# Altium schematic symbol library HK_SCHLIB.SchLib: 347 symbols (part 7 of 8)
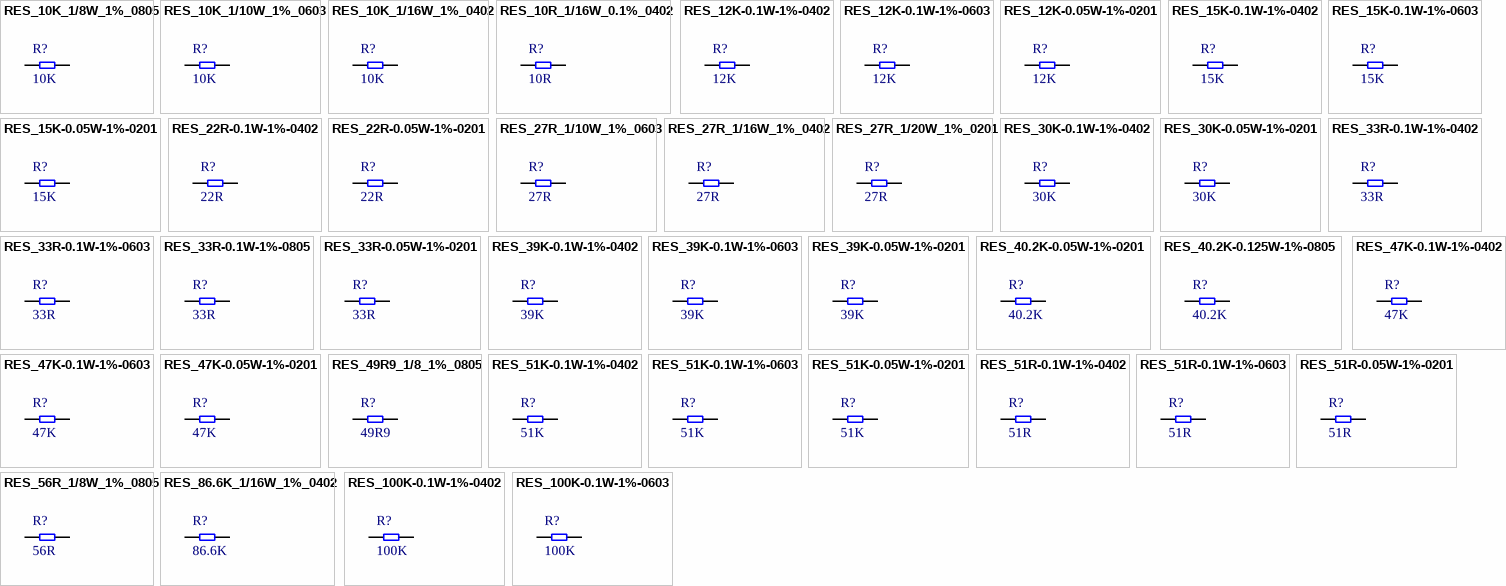
[diagram p21: symbols RES_10K_1/8W_1%_0805 to RES_100K-0.1W-1%-0603]

## RES_15K-0.1W-1%-0603
designator R?, comment 15K
15 kOhms ±1% 0.1W, 1/10W Chip Resistor 0603 (1608 Metric) Thick Film /; Manufacturer: Yageo; Manufacturer Part Number: RC0603FR-0715KL; Suplier-1: Digikey; Case/Package: 0603
footprint RES_0603 (CASE: 0603)
pins: 1, 2

## RES_15K-0.05W-1%-0201
designator R?, comment 15K
15 kOhms ±1% 0.05W, 1/20W Chip Resistor 0201 (0603 Metric) Thick Film /; Manufacturer: Stackpole Electronics Inc; Manufacturer Part Number: RMCF0201FT15K0; Suplier-1: Digikey; Case/Package: 0201
footprint RES_0201
pins: 1, 2

## RES_22R-0.1W-1%-0402
designator R?, comment 22R
Res Thick Film 0402 22 Ohm 1% 0.063W(1/16W) ±100ppm/C Pad SMD T/R
footprint RES_0402
pins: 1, 2

## RES_22R-0.05W-1%-0201
designator R?, comment 22R
22 Ohms ±1% 0.05W, 1/20W Chip Resistor 0201 (0603 Metric) Moisture Resistant Thick Film /; Manufacturer: Yageo; Manufacturer Part Number: RC0201FR-0722RL; Case/Package: 0201; Supplier-1: Digikey
footprint RES_0201
pins: 1, 2

## RES_27R_1/10W_1%_0603
designator R?, comment 27R
SMD Chip Resistor, 27 Ohm, ± 1%, 100 mW, 0603 [1608 Metric], Thick Film, General Purpose; Manufacturer: Yageo; Manufacturer Part Number: RC0603FR-0727RL; Supplier 1: Future Electronics; RoHS: Yes; Category: Chip SMD Resistors; Stock 1: 900000; Pricing 1: 5000=0.0014, 50000=0.0013, 200000=0.0013, 625000=0.0012, 2000000=0.0011 (USD); ComponentLink1URL: https://datasheet.ciiva.com/2454/pyu-r-int-thick-7-2454030.pdf?src-supplier=Digi-Key; ComponentLink1Description: https://datasheet.ciiva.com/2454/pyu-r-int-thick-7-2454030.pdf?src-supplier=Digi-Key; ComponentLink2URL: https://datasheet.ciiva.com/2454/pyu-r-int-thick-7-2454031.pdf?src-supplier=Digi-Key; ComponentLink2Description: https://datasheet.ciiva.com/2454/pyu-r-int-thick-7-2454031.pdf?src-supplier=Digi-Key; ComponentLink3URL: https://datasheet.ciiva.com/2454/pyu-r-int-thick-7-2454032.pdf?src-supplier=Digi-Key; ComponentLink3Description: https://datasheet.ciiva.com/2454/pyu-r-int-thick-7-2454032.pdf?src-supplier=Digi-Key; ComponentLink4URL: https://datasheet.ciiva.com/7746/443971-7746313.pdf?src-supplier=Element14; ComponentLink4Description: https://datasheet.ciiva.com/7746/443971-7746313.pdf?src-supplier=Element14; ComponentLink5URL: https://datasheet.ciiva.com/7746/443971-7746314.pdf?src-supplier=Element14; ComponentLink5Description: https://datasheet.ciiva.com/7746/443971-7746314.pdf?src-supplier=Element14
footprint RES_0603
pins: 1, 2

## RES_27R_1/16W_1%_0402
designator R?, comment 27R
Res Thick Film 0402 27 Ohm 1% 0.063W(1/16W) ±100ppm/°C Pad SMD T/R; Manufacturer 1: Yageo; Manufacturer Part Number 1: RC0402FR-0727RL; Power Rating: 62.5mW; Voltage Rating: 50V; Max Power Dissipation: 63mW; ComponentLink1URL: https://datasheet.ciiva.com/11808/0900766b80c66297-11808450.pdf?src-supplier=Rs; ComponentLink1Description: https://datasheet.ciiva.com/11808/0900766b80c66297-11808450.pdf?src-supplier=Rs; ComponentLink2URL: https://datasheet.ciiva.com/7849/1018594-7849927.pdf?src-supplier=Element14; ComponentLink2Description: https://datasheet.ciiva.com/7849/1018594-7849927.pdf?src-supplier=Element14; ComponentLink3URL: https://datasheet.ciiva.com/7849/1018594-7849926.pdf?src-supplier=Element14; ComponentLink3Description: https://datasheet.ciiva.com/7849/1018594-7849926.pdf?src-supplier=Element14; ComponentLink4URL: https://datasheet.ciiva.com/17044/pyu-rc0402-51-rohs-l-6-17044345.pdf?src-supplier=Future+Electronics; ComponentLink4Description: https://datasheet.ciiva.com/17044/pyu-rc0402-51-rohs-l-6-17044345.pdf?src-supplier=Future+Electronics; ComponentLink5URL: https://datasheet.ciiva.com/15189/getdatasheetpartid-327852-15189402.pdf?src-supplier=Verical; ComponentLink5Description: https://datasheet.ciiva.com/15189/getdatasheetpartid-327852-15189402.pdf?src-supplier=Verical; Supplier 1: Digi-Key; RoHS: Yes; Category: Chip SMD Resistors; Stock 1: 676654; Pricing 1: 1=0.1, 10=0.014, 50=0.0084, 100=0.007, 500=0.00464, 1000=0.00396, 5000=0.00282 (USD); Case/Package: 0402; Case Code (Imperial): 0402; Case Code (Metric): 1005; Weight: 2.3E-05oz; Size Code: 0402; Min Operating Temperature: -55°C; Max Operating Temperature: 155°C; Resistance: 27R; Tolerance: 1%; Packaging: Tape and Reel; Resistor Type: Thick Film; Termination: SMD/SMT; Number of Terminations: 2; Temperature Coefficient: 100ppm/°C; Features: Moisture Resistant; Series: RC; Construction: Rectangular; Technology: THICK FILM; Resistance Tolerance: 1%; Length: 1mm; Width: 0.5mm; Height: 0.016inch; Depth: 0.5mm; Military Standard: Not; Lead Free: Lead Free; RoHS Compliant: Yes; Reach SVHC Compliant: Unknown; Supplier Part Number 1: YAG3086CT-ND
footprint RES_0402
pins: 1, 2

## RES_27R_1/20W_1%_0201
designator R?, comment 27R
Res Thick Film 0201 27 Ohm 1% 1/20W ±200ppm/°C Molded SMD Paper T/R; Manufacturer: Yageo; Manufacturer Part Number: RC0201FR-0727RL; Supplier 1: Avnet; RoHS: Yes; Category: Chip SMD Resistors; Stock 1: 10000; Pricing 1: 1=0.102, 25=0.016, 100=0.008, 250=0.007, 500=0.006 (USD); ComponentLink1URL: http://www.mouser.com/ds/2/447/RC0201-559633.pdf?src-supplier=Mouser; ComponentLink1Description: http://www.mouser.com/ds/2/447/RC0201-559633.pdf?src-supplier=Mouser; ComponentLink2URL: https://www.yageo.com/upload/media/product/productsearch/datasheet/rchip/PYu-RC_Group_51_RoHS_L_11.pdf?src-supplier=Digi-Key; ComponentLink2Description: https://www.yageo.com/upload/media/product/productsearch/datasheet/rchip/PYu-RC_Group_51_RoHS_L_11.pdf?src-supplier=Digi-Key; ComponentLink3URL: http://www.yageo.com/documents/recent/PYu-RC_Group_51_RoHS_L_9.pdf?src-supplier=Digi-Key; ComponentLink3Description: http://www.yageo.com/documents/recent/PYu-RC_Group_51_RoHS_L_9.pdf?src-supplier=Digi-Key; ComponentLink4URL: https://datasheet.octopart.com/RC0201FR-0727RL-Yageo-datasheet-164759695.pdf?src-supplier=Future+Electronics; ComponentLink4Description: https://datasheet.octopart.com/RC0201FR-0727RL-Yageo-datasheet-164759695.pdf?src-supplier=Future+Electronics
footprint RES_0201
pins: 1, 2

## RES_30K-0.1W-1%-0402
designator R?, comment 30K
30 kOhms ±1% 0.1W, 1/10W Chip Resistor 0402 (1005 Metric) Automotive AEC-Q200, Moisture Resistant Thick Film /; Manufacturer: KOA Speer Electronics, Inc.; Manufacturer Part Number: RK73H1ETTP3002F; Case/Package: 0402; Supplier-1: Digikey
footprint RES_0402
pins: 1, 2

## RES_30K-0.05W-1%-0201
designator R?, comment 30K
30 kOhms ±1% 0.05W, 1/20W Chip Resistor 0201 (0603 Metric) Thick Film /; Manufacturer: KOA Speer Electronics, Inc.; Manufacturer Part Number: CRCW020130K0FKED; Case/Package: 0201; Supplier-1: Digikey
footprint RES_0201
pins: 1, 2

## RES_33R-0.1W-1%-0402
designator R?, comment 33R
33 Ohms ±1% 0.1W, 1/10W Chip Resistor 0402 (1005 Metric) Automotive AEC-Q200 Thick Film /; Manufacturer: Panasonic Electronic Components; Manufacturer Part Number: ERJ-2RKF33R0X; Case/Package: 0402; Supplier-1: Digikey
footprint RES_0402
pins: 1, 2

## RES_33R-0.1W-1%-0603
designator R?, comment 33R
33 Ohms ±1% 0.1W, 1/10W Chip Resistor 0603 (1608 Metric) Thick Film /; Manufacturer: Yageo; Manufacturer Part Number: RC0603FR-0733RL; Case/Package: 0603; Supplier-1: Digikey
footprint RES_0603 (CASE: 0603)
pins: 1, 2

## RES_33R-0.1W-1%-0805
designator R?, comment 33R
33 Ohms ±1% 0.1W, 1/10W Chip Resistor 0805  Thick Film /; Manufacturer: Yageo; Manufacturer Part Number: RC0603FR-0733RL; Case/Package: 0603; Supplier-1: Digikey
footprint RES_0805
pins: 1, 2

## RES_33R-0.05W-1%-0201
designator R?, comment 33R
33 Ohms ±1% 0.05W, 1/20W Chip Resistor 0201 (0603 Metric) Thick Film /; Manufacturer: Yageo; Manufacturer Part Number: RC0201FR-0733RL; Case/Package: 0201; Supplier-1: Digikey
footprint RES_0201
pins: 1, 2

## RES_39K-0.1W-1%-0402
designator R?, comment 39K
39 kOhms ±1% 0.1W, 1/10W Chip Resistor 0402 (1005 Metric) Automotive AEC-Q200, Moisture Resistant Thick Film /; Manufacturer: KOA Speer Electronics, Inc.; Manufacturer Part Number: RK73H1ETTP3902F; Case/Package: 0402; Supplier-1: Digikey
footprint RES_0402
pins: 1, 2

## RES_39K-0.1W-1%-0603
designator R?, comment 39K
39 kOhms ±1% 0.1W, 1/10W Chip Resistor 0603 (1608 Metric) Automotive AEC-Q200, Moisture Resistant Thick Film /; Manufacturer: TE Connectivity Passive Product; Manufacturer Part Number: CRGCQ0603F39K; Case/Package: 0603; Supplier-1: Digikey
footprint RES_0603 (CASE: 0603)
pins: 1, 2

## RES_39K-0.05W-1%-0201
designator R?, comment 39K
39 kOhms ±1% 0.05W, 1/20W Chip Resistor 0201 (0603 Metric) Thick Film /; Manufacturer: Yageo; Manufacturer Part Number: RC0201FR-0739KL; Case/Package: 0201; Supplier-1: Digikey
footprint RES_0201
pins: 1, 2

## RES_40.2K-0.05W-1%-0201
designator R?, comment 40.2K
40.2 kOhms ±1% 0.05W, 1/20W Chip Resistor 0201 (0603 Metric) Automotive AEC-Q200, Moisture Resistant Thick Film /; Manufacturer: Yageo; Manufacturer Part Number: AC0201FR-0740K2L; Case/Package: 0201; Supplier-1: Digikey
footprint RES_0201
pins: 1, 2

## RES_40.2K-0.125W-1%-0805
designator R?, comment 40.2K
Res Thick Film 0402 22 Ohm 1% 0.063W(1/16W) ±100ppm/C Pad SMD T/R; Manufacturer: TE Connectivity; Manufacturer Part Number: RMCF0805FT40K2; Alternate Part Number-1: NA; Case/Package: 0805; Supplier-1: SIRICOM; Supplier Part Number-1: WR08X4022FTL; Category: Resistor; Number of Pins: 2; Supplier 1: Digi-Key; Supplier Part Number 1: 311-22.0LRCT-ND; RoHS: Yes; Stock 1: 4514621; Pricing 1: 1=0.1, 10=0.014, 50=0.0084, 100=0.007, 500=0.00464, 1000=0.00396, 5000=0.00282 (USD); ComponentLink1URL: https://datasheet.ciiva.com/11819/0900766b80c66297-11819462.pdf?src-supplier=Rs; ComponentLink1Description: https://datasheet.ciiva.com/11819/0900766b80c66297-11819462.pdf?src-supplier=Rs; ComponentLink2URL: https://datasheet.ciiva.com/7849/1018594-7849911.pdf?src-supplier=Element14; ComponentLink2Description: https://datasheet.ciiva.com/7849/1018594-7849911.pdf?src-supplier=Element14; ComponentLink3URL: https://datasheet.ciiva.com/7849/1018594-7849912.pdf?src-supplier=Element14; ComponentLink3Description: https://datasheet.ciiva.com/7849/1018594-7849912.pdf?src-supplier=Element14; ComponentLink4URL: https://datasheet.ciiva.com/16930/pyu-rc0402-51-rohs-l-6-r-16930687.pdf?src-supplier=Future+Electronics; ComponentLink4Description: https://datasheet.ciiva.com/16930/pyu-rc0402-51-rohs-l-6-r-16930687.pdf?src-supplier=Future+Electronics; ComponentLink5URL: https://datasheet.ciiva.com/26829/getdatasheetpartid-554995-26829991.pdf?src-supplier=Verical; ComponentLink5Description: https://datasheet.ciiva.com/26829/getdatasheetpartid-554995-26829991.pdf?src-supplier=Verical
footprint RES_0805 (Footprint not found)
pins: 1, 2

## RES_47K-0.1W-1%-0402
designator R?, comment 47K
47 kOhms ±1% 0.1W, 1/10W Chip Resistor 0402 (1005 Metric) Automotive AEC-Q200 Thick Film /; Manufacturer: Panasonic Electronic Components; Manufacturer Part Number: ERJ-2RKF4702X; Case/Package: 0402; Supplier-1: Digikey
footprint RES_0402
pins: 1, 2

## RES_47K-0.1W-1%-0603
designator R?, comment 47K
47 kOhms ±1% 0.1W, 1/10W Chip Resistor 0603 (1608 Metric) Thick Film /; Manufacturer: Yageo; Manufacturer Part Number: RC0603FR-0747KL; Case/Package: 0603; Supplier-1: Digikey
footprint RES_0603 (CASE: 0603)
pins: 1, 2

## RES_47K-0.05W-1%-0201
designator R?, comment 47K
40.2 kOhms ±1% 0.05W, 1/20W Chip Resistor 0201 (0603 Metric) Automotive AEC-Q200, Moisture Resistant Thick Film /; Manufacturer: Yageo; Manufacturer Part Number: AC0201FR-0740K2L; Case/Package: 0201; Supplier-1: Digikey
footprint RES_0201
pins: 1, 2

## RES_49R9_1/8_1%_0805
designator R?, comment 49R9
Res Thick Film 0805 49.9 Ohm 1% 0.125W(1/8W) ±100ppm/C Pad SMD T/R
footprint RES_0805
pins: 1, 2

## RES_51K-0.1W-1%-0402
designator R?, comment 51K
51 kOhms ±1% 0.1W, 1/10W Chip Resistor 0402 (1005 Metric) Automotive AEC-Q200 Thick Film /; Manufacturer: Panasonic Electronic Components; Manufacturer Part Number: ERJ-2RKF5102X; Case/Package: 0402; Supplier-1: Digikey
footprint RES_0402
pins: 1, 2

## RES_51K-0.1W-1%-0603
designator R?, comment 51K
51 kOhms ±1% 0.1W, 1/10W Chip Resistor 0603 (1608 Metric) Automotive AEC-Q200 Thick Film /; Manufacturer: Stackpole Electronics Inc; Manufacturer Part Number: RMCF0603FT51K0; Case/Package: 0603; Supplier-1: Digikey
footprint RES_0603 (CASE: 0603)
pins: 1, 2

## RES_51K-0.05W-1%-0201
designator R?, comment 51K
51 kOhms ±1% 0.05W, 1/20W Chip Resistor 0201 (0603 Metric) Thick Film /; Manufacturer: Yageo; Manufacturer Part Number: RC0201FR-0751KL; Case/Package: 0201; Supplier-1: Digikey
footprint RES_0201
pins: 1, 2

## RES_51R-0.1W-1%-0402
designator R?, comment 51R
51 Ohms ±1% 0.1W, 1/10W Chip Resistor 0402 (1005 Metric) Automotive AEC-Q200 Thick Film /; Manufacturer: Panasonic Electronic Components; Manufacturer Part Number: ERJ-2RKF51R0X; Case/Package: 0402; Supplier-1: Digikey
footprint RES_0402
pins: 1, 2

## RES_51R-0.1W-1%-0603
designator R?, comment 51R
Res Thick Film 0603 51 Ohm 1% 1/10W ±100ppm/°C Molded SMD SMD Paper T/R; Manufacturer: Stackpole Electronics Inc; Manufacturer Part Number: RMCF0603FT51R0; Manufacturer 1: Stackpole Electronics; Max Power Dissipation: 100mW; Case/Package: 0603; Supplier-1: Digikey; Supplier 1: Digi-Key; Manufacturer Part Number 1: RMCF0603FT51R0; RoHS: Yes; Category: Chip SMD Resistors; Stock 1: 407849; Pricing 1: 1=0.1, 10=0.014, 50=0.0086, 100=0.0071, 500=0.00474, 1000=0.00404 (USD); Mount: Surface Mount; Case Code (Metric): 1608; Case Code (Imperial): 0603; Contact Plating: Tin,Matte; Min Operating Temperature: -55°C; Max Operating Temperature: 155°C; Resistance: 51R; Tolerance: 1%; Packaging: Tape and Reel; Number of Terminations: 2; Temperature Coefficient: 100ppm/°C; Features: Automotive AEC-Q200; Series: RMCF; Length: 0.061inch; Width: 0.031inch; Height: 0.022inch; Ratings: AEC-Q200; Radiation Hardening: No; Lead Free: Lead Free; RoHS Compliant: Yes; ComponentLink1URL: https://www.seielect.com/catalog/SEI-Packaging.pdf?src-supplier=Digi-Key; ComponentLink1Description: https://www.seielect.com/catalog/SEI-Packaging.pdf?src-supplier=Digi-Key; ComponentLink2URL: https://www.seielect.com/catalog/SEI-RMCF_RMCP.pdf?src-supplier=Avnet; ComponentLink2Description: https://www.seielect.com/catalog/SEI-RMCF_RMCP.pdf?src-supplier=Avnet; Supplier Part Number 1: RMCF0603FT51R0CT-ND
footprint RES_0603 (CASE: 0603)
pins: 1, 2

## RES_51R-0.05W-1%-0201
designator R?, comment 51R
51 Ohms ±1% 0.05W, 1/20W Chip Resistor 0201 (0603 Metric) Thick Film /; Manufacturer: Yageo; Manufacturer Part Number: RC0201FR-0751RL; Case/Package: 0201; Supplier-1: Digikey
footprint RES_0201
pins: 1, 2

## RES_56R_1/8W_1%_0805
designator R?, comment 56R
Res Thick Film 0805 56 Ohm 1% 0.125W(1/8W) ±100ppm/C Pad SMD T/R; Manufacturer: Yageo; Manufacturer Part Number: RC0805FR-0756RL; Supplier 1: Future Electronics; RoHS: Yes; Category: Chip SMD Resistors; Stock 1: 105000; Pricing 1: 5000=0.0026, 25000=0.0024, 125000=0.0023, 375000=0.0022, 1000000=0.002 (USD); ComponentLink1URL: https://datasheet.ciiva.com/11808/0900766b8106beab-11808614.pdf?src-supplier=Rs; ComponentLink1Description: https://datasheet.ciiva.com/11808/0900766b8106beab-11808614.pdf?src-supplier=Rs; ComponentLink2URL: https://datasheet.ciiva.com/2519/pyu-r-int-thick-7-2519654.pdf?src-supplier=Digi-Key; ComponentLink2Description: https://datasheet.ciiva.com/2519/pyu-r-int-thick-7-2519654.pdf?src-supplier=Digi-Key; ComponentLink3URL: https://datasheet.ciiva.com/2519/pyu-r-int-thick-7-2519655.pdf?src-supplier=Digi-Key; ComponentLink3Description: https://datasheet.ciiva.com/2519/pyu-r-int-thick-7-2519655.pdf?src-supplier=Digi-Key; ComponentLink4URL: https://datasheet.ciiva.com/2519/pyu-r-int-thick-7-2519656.pdf?src-supplier=Digi-Key; ComponentLink4Description: https://datasheet.ciiva.com/2519/pyu-r-int-thick-7-2519656.pdf?src-supplier=Digi-Key; ComponentLink5URL: https://datasheet.ciiva.com/15189/getdatasheetpartid-326678-15189995.pdf?src-supplier=Verical; ComponentLink5Description: https://datasheet.ciiva.com/15189/getdatasheetpartid-326678-15189995.pdf?src-supplier=Verical; ComponentLink6URL: https://datasheet.ciiva.com/17419/rc0805-17419927.pdf?src-supplier=Future+Electronics; ComponentLink6Description: https://datasheet.ciiva.com/17419/rc0805-17419927.pdf?src-supplier=Future+Electronics; ComponentLink7URL: https://datasheet.ciiva.com/7941/444164-7941817.pdf?src-supplier=Element14; ComponentLink7Description: https://datasheet.ciiva.com/7941/444164-7941817.pdf?src-supplier=Element14; ComponentLink8URL: https://datasheet.ciiva.com/7941/444164-7941818.pdf?src-supplier=Element14; ComponentLink8Description: https://datasheet.ciiva.com/7941/444164-7941818.pdf?src-supplier=Element14
footprint RES_0805
pins: 1, 2

## RES_86.6K_1/16W_1%_0402
designator R?, comment 86.6K
Res General Purpose Thick Film 0402 86.6K Ohm 1% 1/16W ±100ppm/°C Molded SMD Paper T/R; Manufacturer: Yageo; Manufacturer Part Number: RC0402FR-0786K6L; Resistance: 86.6kR; Power Rating: 62.5mW; Voltage Rating: 50V; Max Power Dissipation: 63mW; Supplier 1: Future Electronics; RoHS: Yes; Category: Chip SMD Resistors; Stock 1: 30000; Pricing 1: 10000=0.0008, 50000=0.0008, 300000=0.0007, 1000000=0.0007, 3000000=0.0007 (USD); Case/Package: 0402; Contact Plating: Tin,Lead; Case Code (Imperial): 0402; Case Code (Metric): 1005; Weight: 2.3E-05oz; Size Code: 0402; Min Operating Temperature: -55°C; Max Operating Temperature: 155°C; Tolerance: 1%; Temperature Coefficient: 100ppm/°C; Packaging: Tape and Reel; Termination: SMD/SMT; Number of Terminations: 2; Features: Moisture Resistant; Series: RC; Length: 0.039inch; Width: 0.5mm; Height: 0.016inch; Lead Free: Lead Free; RoHS Compliant: Yes; ComponentLink1URL: https://datasheet.ciiva.com/5596/pyu-rc0402-51-rohs-l-6-r-5596021.pdf?src-supplier=Mouser; ComponentLink1Description: https://datasheet.ciiva.com/5596/pyu-rc0402-51-rohs-l-6-r-5596021.pdf?src-supplier=Mouser
footprint RES_0402
pins: 1, 2

## RES_100K-0.1W-1%-0402
designator R?, comment 100K
SMD Chip Resistor, 100 kOhm, ± 1%, 100 mW, 0402 [1005 Metric], Thin Film, Professional; Manufacturer 1: Vishay Beyschlag; Manufacturer Part Number 1: MCS04020C1003FE000; Resistance: 100kR; Power Rating: 63mW; Voltage Rating: 50V; Max Power Dissipation: 100mW; Temperature Coefficient: 50ppm/°C; Supplier 1: Digi-Key; RoHS: Yes; Category: Chip SMD Resistors; Stock 1: 96957; Pricing 1: 1=0.14, 10=0.129, 50=0.0692, 100=0.0495, 500=0.03068, 1000=0.02178, 5000=0.01683 (USD); Case/Package: 0402; Weight: 2.1E-05oz; Case Code (Metric): 1005; Case Code (Imperial): 0402; Contact Plating: Tin; Min Operating Temperature: -55°C; Max Operating Temperature: 125°C; Package Quantity: 10000; Tolerance: 1%; Packaging: Tape and Reel; Resistor Type: Thin Film; Number of Terminations: 2; Voltage Rating (DC): 50V; Series: MCS - Professional; Resistance Tolerance: 1%; Features: Anti-Sulfur; Length: 1mm; Width: 0.5mm; Height: 0.32mm; Radiation Hardening: No; Reach SVHC Compliant: No; Lead Free: Lead Free; RoHS Compliant: Yes; ComponentLink1URL: https://datasheet.ciiva.com/2471/mc-pro-2471793.pdf?src-supplier=Digi-Key; ComponentLink1Description: https://datasheet.ciiva.com/2471/mc-pro-2471793.pdf?src-supplier=Digi-Key; ComponentLink2URL: https://datasheet.ciiva.com/2471/mc-pro-2471794.pdf?src-supplier=Digi-Key; ComponentLink2Description: https://datasheet.ciiva.com/2471/mc-pro-2471794.pdf?src-supplier=Digi-Key; ComponentLink3URL: https://datasheet.ciiva.com/2471/mc-pro-2471792.pdf?src-supplier=Digi-Key; ComponentLink3Description: https://datasheet.ciiva.com/2471/mc-pro-2471792.pdf?src-supplier=Digi-Key; Supplier Part Number 1: MCS0402-100K-CFCT-ND
footprint RES_0402
pins: 1, 2

## RES_100K-0.1W-1%-0603
designator R?, comment 100K
Res Thick Film 0603 100K Ohm 1% 1/10W ±100ppm/°C Molded SMD SMD Paper T/R; Manufacturer: tackpole Electronics Inc; Manufacturer Part Number: RMCF0603FT100K; Manufacturer 1: Stackpole Electronics; Resistance: 100kR; Max Power Dissipation: 100mW; Case/Package: 0603; Supplier-1: Digikey; Supplier 1: Digi-Key; Manufacturer Part Number 1: RMCF0603FT100K; RoHS: Yes; Category: Chip SMD Resistors; Stock 1: 3081325; Pricing 1: 1=0.1, 10=0.014, 50=0.0086, 100=0.0071, 500=0.00474, 1000=0.00404 (USD); Mount: Surface Mount; Case Code (Metric): 1608; Case Code (Imperial): 0603; Contact Plating: Tin,Matte; Min Operating Temperature: -55°C; Max Operating Temperature: 155°C; Tolerance: 1%; Packaging: Tape and Reel; Number of Terminations: 2; Temperature Coefficient: 100ppm/°C; Features: Automotive AEC-Q200; Series: RMCF; Construction: Rectangular; Length: 1.55mm; Width: 0.031inch; Height: 0.022inch; Depth: 0.8mm; Radiation Hardening: No; Military Standard: Not; Lead Free: Lead Free; RoHS Compliant: Yes; ComponentLink1URL: https://datasheet.ciiva.com/15193/getdatasheetpartid-362597-15193437.pdf?src-supplier=Verical; ComponentLink1Description: https://datasheet.ciiva.com/15193/getdatasheetpartid-362597-15193437.pdf?src-supplier=Verical; Supplier Part Number 1: RMCF0603FT100KCT-ND
footprint RES_0603 (CASE: 0603)
pins: 1, 2

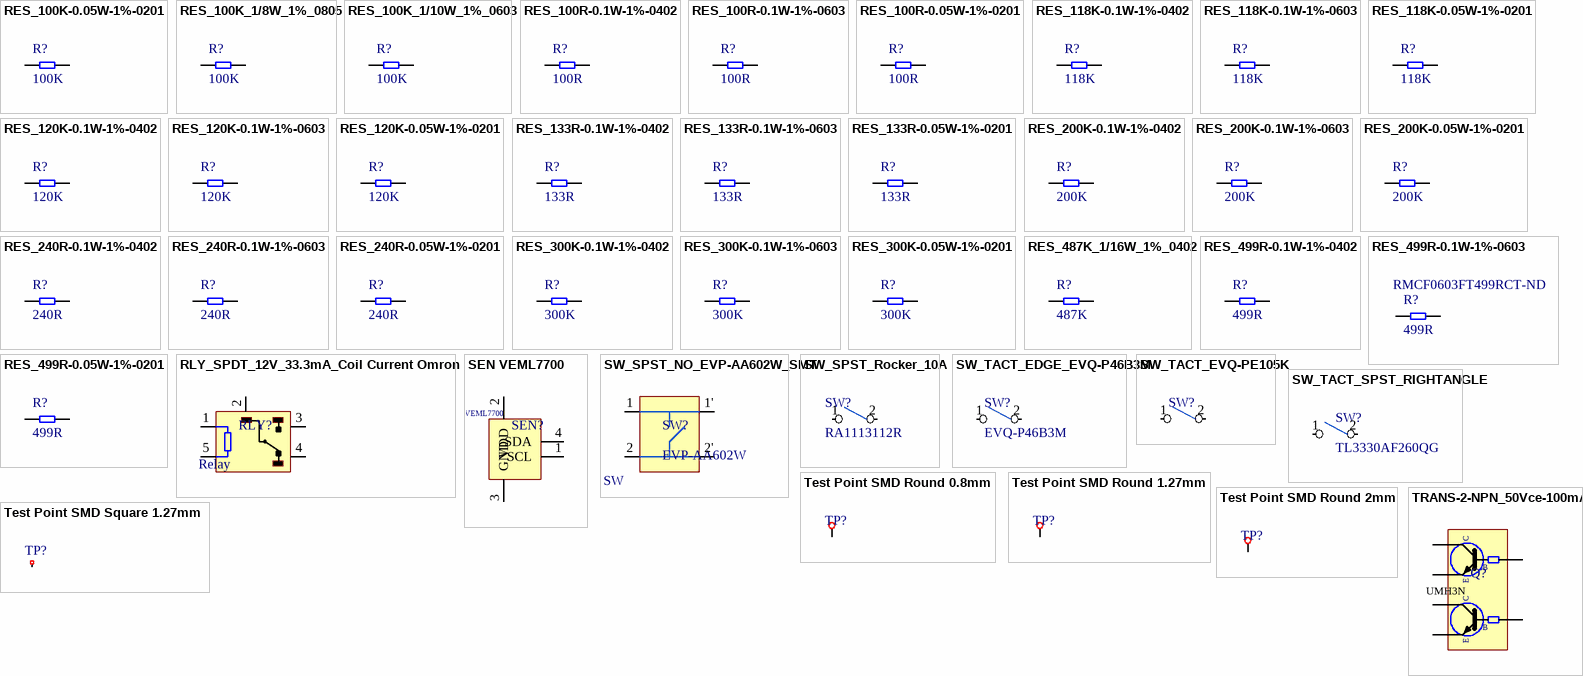
[diagram p14: symbols RES_100K-0.05W-1%-0201 to TRANS-2-NPN_50Vce-100mA]

## RES_100K-0.05W-1%-0201
designator R?, comment 100K
100 kOhms ±1% 0.05W, 1/20W Chip Resistor 0201 (0603 Metric) Automotive AEC-Q200 Thick Film /; Manufacturer: Panasonic Electronic Components; Manufacturer Part Number: ERJ-1GNF1003C; Case/Package: 0201; Supplier-1: Digikey
footprint RES_0201
pins: 1, 2

## RES_100K_1/8W_1%_0805
designator R?, comment 100K
SMD Chip Resistor, 100 kOhm, ± 1%, 125 mW, 0805 [2012 Metric], Thick Film, General Purpose; Manufacturer: Yageo; Manufacturer Part Number: RC0805FR-13100KL; Supplier 1: Future Electronics; RoHS: Yes; Category: Chip SMD Resistors; Stock 1: 3620000; Pricing 1: 20000=0.0021, 80000=0.002, 300000=0.0019, 800000=0.0018, 2000000=0.0017 (USD); ComponentLink1URL: https://datasheet.ciiva.com/5558/rc0805-5558047.pdf?src-supplier=Mouser; ComponentLink1Description: https://datasheet.ciiva.com/5558/rc0805-5558047.pdf?src-supplier=Mouser
footprint RES_0805
pins: 1, 2

## RES_100K_1/10W_1%_0603
designator R?, comment 100K
SMD Chip Resistor, 100 kOhm, ± 1%, 100 mW, 0603 [1608 Metric], Thick Film, General Purpose; Manufacturer: Yageo; Manufacturer Part Number: RC0603FR-07100KL; Resistance: 100kR; Temperature Coefficient: 100ppm/°C; Voltage Rating (DC): 50V; Power Rating: 100mW; Supplier 1: Future Electronics; RoHS: Yes; Category: Chip SMD Resistors; Stock 1: 12510000; Pricing 1: 5000=0.0012, 50000=0.0011, 200000=0.0011, 625000=0.001, 2000000=0.001 (USD); Case/Package: 0603; Number of Pins: 2; Case Code (Imperial): 0603; Case Code (Metric): 1608; Min Operating Temperature: -55°C; Max Operating Temperature: 155°C; Tolerance: 1%; Resistor Type: Thick Film; Packaging: Tape and Reel; Voltage Rating: 50V; Termination: SMD/SMT; Number of Terminations: 2; Features: Moisture Resistant; Series: RC; Max Power Dissipation: 100mW; Resistance Tolerance: 1%; Construction: Rectangular; Technology: THICK FILM; Length: 1.6mm; Width: 0.8mm; Height: 0.45mm; Depth: 0.8mm; Reach SVHC Compliant: No; Lead Free: Lead Free; Military Standard: Not; RoHS Compliant: Yes
footprint RES_0603
pins: 1, 2

## RES_100R-0.1W-1%-0402
designator R?, comment 100R
Res Thick Film 0402 100 Ohm 1% 0.1W(1/10W) ±100ppm/C Pad SMD Automotive T/R; Manufacturer 1: KOA Speer; Manufacturer Part Number 1: RK73H1ETTP1000F; Power Rating: 63mW; Voltage Rating: 50V; Temperature Coefficient: 100ppm/°C; Max Power Dissipation: 100mW; Supplier 1: Digi-Key; RoHS: Yes; Category: Chip SMD Resistors; Stock 1: 620543; Pricing 1: 1=0.1, 10=0.026, 50=0.0146, 100=0.0107, 500=0.00654, 1000=0.00482, 5000=0.00345 (USD); Case/Package: 0402; Case Code (Imperial): 0402; Case Code (Metric): 1005; Min Operating Temperature: -55°C; Max Operating Temperature: 155°C; Resistance: 100R; Tolerance: 1%; Packaging: Tape and Reel; Package Quantity: 10000; Termination: SMD/SMT; Voltage Rating (DC): 50V; Series: RK73H; Construction: Rectangular; Features: Moisture Resistant,Automotive AEC-Q200; Number of Terminations: 2; Length: 1mm; Width: 0.5mm; Height: 0.35mm; Depth: 0.5mm; Ratings: AEC-Q200; Military Standard: Not; Lead Free: Lead Free; RoHS Compliant: Yes; ComponentLink1URL: https://datasheet.ciiva.com/5556/rk73h-5556205.pdf?src-supplier=Mouser; ComponentLink1Description: https://datasheet.ciiva.com/5556/rk73h-5556205.pdf?src-supplier=Mouser; Supplier Part Number 1: 2019-RK73H1ETTP1000FCT-ND
footprint RES_0402
pins: 1, 2

## RES_100R-0.1W-1%-0603
designator R?, comment 100R
100 Ohms ±1% 0.1W, 1/10W Chip Resistor 0603 (1608 Metric) Thick Film /; Manufacturer: Yageo; Manufacturer Part Number: RC0603FR-07100RL; Case/Package: 0603; Supplier-1: Digikey
footprint RES_0603 (CASE: 0603)
pins: 1, 2

## RES_100R-0.05W-1%-0201
designator R?, comment 100R
100 kOhms ±1% 0.05W, 1/20W Chip Resistor 0201 (0603 Metric) Automotive AEC-Q200 Thick Film /; Manufacturer: Panasonic Electronic Components; Manufacturer Part Number: ERJ-1GNF1003C; Case/Package: 0201; Supplier-1: Digikey
footprint RES_0201
pins: 1, 2

## RES_118K-0.1W-1%-0402
designator R?, comment 118K
118 kOhms ±1% 0.1W, 1/10W Chip Resistor 0402 (1005 Metric) Automotive AEC-Q200, Moisture Resistant Thick Film /; Manufacturer: KOA Speer Electronics, Inc.; Manuafcturer Part Number: RK73H1ETTP1183F; Case/Package: 0402; Supplier-1: Digikey
footprint RES_0402
pins: 1, 2

## RES_118K-0.1W-1%-0603
designator R?, comment 118K
118 kOhms ±1% 0.1W, 1/10W Chip Resistor 0603 (1608 Metric) Automotive AEC-Q200 Thick Film /; Manufacturer: Stackpole Electronics Inc; Manuafcturer Part Number: RMCF0603FT118K; Case/Package: 0603; Supplier-1: Digikey
footprint RES_0603 (CASE: 0603)
pins: 1, 2

## RES_118K-0.05W-1%-0201
designator R?, comment 118K
118 kOhms ±1% 0.05W, 1/20W Chip Resistor 0201 (0603 Metric) Automotive AEC-Q200 Thick Film /; Manufacturer: Panasonic Electronic Components; Manuafcturer Part Number: ERJ-1GNF1183C; Case/Package: 0201; Supplier-1: Digikey
footprint RES_0201
pins: 1, 2

## RES_120K-0.1W-1%-0402
designator R?, comment 120K
120 kOhms ±1% 0.1W, 1/10W Chip Resistor 0402 (1005 Metric) Anti-Sulfur Thin Film /; Manufacturer: Vishay Beyschlag/Draloric/BC Components; Manufacturer Part Number: MCS04020C1203FE000; Case/Package: 0402; Supplier-1: Digikey
footprint RES_0402
pins: 1, 2

## RES_120K-0.1W-1%-0603
designator R?, comment 120K
120 kOhms ±1% 0.1W, 1/10W Chip Resistor 0603 (1608 Metric) Thin Film /; Manufacturer: Yageo; Manufacturer Part Number: RT0603FRE07120KL; Case/Package: 0603; Supplier-1: Digikey
footprint RES_0603 (CASE: 0603)
pins: 1, 2

## RES_120K-0.05W-1%-0201
designator R?, comment 120K
120 kOhms ±1% 0.05W, 1/20W Chip Resistor 0201 (0603 Metric) Thick Film /; Manufacturer: Yageo; Manufacturer Part Number: RC0201FR-07120KL; Case/Package: 0402; Supplier-1: Digikey
footprint RES_0201
pins: 1, 2

## RES_133R-0.1W-1%-0402
designator R?, comment 133R
133 Ohms ±1% 0.1W, 1/10W Chip Resistor 0402 (1005 Metric) Automotive AEC-Q200 Thick Film /; Manufacturer: Panasonic Electronic Components; Manufacturer Part Number: ERJ-2RKF1330X; Case/Package: 0402; Supplier-1: Digikey
footprint RES_0402
pins: 1, 2

## RES_133R-0.1W-1%-0603
designator R?, comment 133R
133 Ohms ±1% 0.1W, 1/10W Chip Resistor 0603 (1608 Metric) Automotive AEC-Q200 Thick Film /; Manufacturer: Stackpole Electronics Inc; Manufacturer Part Number: RMCF0603FT133R; Case/Package: 0603; Supplier-1: Digikey
footprint RES_0603 (CASE: 0603)
pins: 1, 2

## RES_133R-0.05W-1%-0201
designator R?, comment 133R
133 Ohms ±1% 0.05W, 1/20W Chip Resistor 0201 (0603 Metric) Automotive AEC-Q200 Thick Film /; Manufacturer: Panasonic Electronic Components; Manufacturer Part Number: ERJ-1GNF1330C; Case/Package: 0201; Supplier-1: Digikey
footprint RES_0201
pins: 1, 2

## RES_200K-0.1W-1%-0402
designator R?, comment 200K
200 kOhms ±1% 0.1W, 1/10W Chip Resistor 0402 (1005 Metric) Automotive AEC-Q200 Thick Film /; Manufacturer: Panasonic Electronic Components; Manufacturer Part number: ERJ-2RKF2003X; Case/Package: 0402; Supplier-1: Digikey
footprint RES_0402
pins: 1, 2

## RES_200K-0.1W-1%-0603
designator R?, comment 200K
200 kOhms ±1% 0.1W, 1/10W Chip Resistor 0603 (1608 Metric) Thick Film /; Manufacturer: Yageo; Manufacturer Part number: RC0603FR-07200KL; Case/Package: 0603; Supplier-1: Digikey
footprint RES_0603 (CASE: 0603)
pins: 1, 2

## RES_200K-0.05W-1%-0201
designator R?, comment 200K
200 kOhms ±1% 0.05W, 1/20W Chip Resistor 0201 (0603 Metric) Thick Film /; Manufacturer: Stackpole Electronics Inc; Manufacturer Part number: RMCF0201FT200K; Case/Package: 0201; Supplier-1: Digikey
footprint RES_0201
pins: 1, 2

## RES_240R-0.1W-1%-0402
designator R?, comment 240R
SMD Chip Resistor, 240 Ohm, ± 1%, 100 mW, 0402 [1005 Metric], Thick Film, Precision; Manufacturer 1: Panasonic; Manufacturer Part Number 1: ERJ-2RKF2400X; Power Rating: 100mW; Voltage Rating: 50V; Temperature Coefficient: 100ppm/°C; Supplier 1: Digi-Key; RoHS: Yes; Category: Chip SMD Resistors; Stock 1: 5179028; Pricing 1: 1=0.1, 10=0.029, 50=0.0162, 100=0.0119, 500=0.00728, 1000=0.00535, 5000=0.00384 (USD); Mount: Surface Mount; Case/Package: 0402; Case Code (Metric): 1005; Case Code (Imperial): 0402; Contact Plating: Tin; Min Operating Temperature: -55°C; Max Operating Temperature: 155°C; Resistance: 240R; Tolerance: 1%; Packaging: Tape and Reel; Package Quantity: 1; Resistor Type: Thick Film; Number of Terminations: 2; Termination: SMD/SMT; Max Power Dissipation: 100mW; Voltage Rating (DC): 50V; Working Voltage: 50V; Features: Automotive AEC-Q200; Series: ERJ; Resistance Tolerance: 1%; Technology: THICK FILM; Construction: Rectangular; Length: 1mm; Width: 0.5mm; Height: 0.35mm; Depth: 0.5mm; Radiation Hardening: No; Reach SVHC Compliant: No; Military Standard: Not; Lead Free: Lead Free; RoHS Compliant: Yes; ComponentLink1URL: https://datasheet.ciiva.com/43460/426256-43460285.pdf?src-supplier=Farnell; ComponentLink1Description: https://datasheet.ciiva.com/43460/426256-43460285.pdf?src-supplier=Farnell; ComponentLink2URL: https://datasheet.ciiva.com/5915/426256-5915279.pdf?src-supplier=Farnell; ComponentLink2Description: https://datasheet.ciiva.com/5915/426256-5915279.pdf?src-supplier=Farnell; ComponentLink3URL: https://datasheet.ciiva.com/46377/426256-46377989.pdf?src-supplier=Element14; ComponentLink3Description: https://datasheet.ciiva.com/46377/426256-46377989.pdf?src-supplier=Element14; ComponentLink4URL: https://datasheet.ciiva.com/28577/1678782-28577704.pdf?src-supplier=Element14; ComponentLink4Description: https://datasheet.ciiva.com/28577/1678782-28577704.pdf?src-supplier=Element14; ComponentLink5URL: https://datasheet.ciiva.com/28675/1678782-28675804.pdf?src-supplier=Element14; ComponentLink5Description: https://datasheet.ciiva.com/28675/1678782-28675804.pdf?src-supplier=Element14; ComponentLink6URL: https://datasheet.ciiva.com/24071/aoa0000ce2-24071911.pdf?src-supplier=Mouser; ComponentLink6Description: https://datasheet.ciiva.com/24071/aoa0000ce2-24071911.pdf?src-supplier=Mouser; ComponentLink7URL: https://datasheet.ciiva.com/16767/70260748-16767689.pdf?src-supplier=Allied+Electronics; ComponentLink7Description: https://datasheet.ciiva.com/16767/70260748-16767689.pdf?src-supplier=Allied+Electronics; Supplier Part Number 1: P240LDKR-ND
footprint RES_0402
pins: 1, 2

## RES_240R-0.1W-1%-0603
designator R?, comment 240R
240 Ohms ±1% 0.1W, 1/10W Chip Resistor 0603 (1608 Metric) Automotive AEC-Q200 Thick Film /; Manufacturer: Stackpole Electronics Inc; Manufacturer Part Number: RMCF0603FT240R; Case/Package: 0603; Supplier-1: Digikey
footprint RES_0603 (CASE: 0603)
pins: 1, 2

## RES_240R-0.05W-1%-0201
designator R?, comment 240R
240 Ohms ±1% 0.05W, 1/20W Chip Resistor 0201 (0603 Metric) Thick Film /; Manufacturer: Yageo; Manufacturer Part Number: RC0201FR-07240RL; Case/Package: 0201; Supplier-1: Digikey
footprint RES_0201
pins: 1, 2

## RES_300K-0.1W-1%-0402
designator R?, comment 300K
300 kOhms ±1% 0.1W, 1/10W Chip Resistor 0402 (1005 Metric) Automotive AEC-Q200 Thick Film /; Manufacturer: Panasonic Electronic Components; Manufacturer Part Number: ERJ-2RKF3003X; Case/Package: 0402; Supplier-1: Digikey
footprint RES_0402
pins: 1, 2

## RES_300K-0.1W-1%-0603
designator R?, comment 300K
300 kOhms ±1% 0.1W, 1/10W Chip Resistor 0603 (1608 Metric) Automotive AEC-Q200 Thick Film /; Manufacturer: Stackpole Electronics Inc; Manufacturer Part Number: RMCF0603FT300KCT-ND; Case/Package: 0603; Supplier-1: Digikey
footprint RES_0603 (CASE: 0603)
pins: 1, 2

## RES_300K-0.05W-1%-0201
designator R?, comment 300K
300 kOhms ±1% 0.05W, 1/20W Chip Resistor 0201 (0603 Metric) Automotive AEC-Q200 Thick Film /; Manufacturer: Panasonic Electronic Components; Manufacturer Part Number: ERJ-1GNF3003C; Case/Package: 0201; Supplier-1: Digikey
footprint RES_0201
pins: 1, 2

## RES_487K_1/16W_1%_0402
designator R?, comment 487K
SMD Chip Resistor, 487 kOhm, ± 1%, 63 mW, 0402 [1005 Metric], Thick Film, General Purpose; Manufacturer: Yageo; Manufacturer Part Number: RC0402FR-07487KL; Supplier 1: Future Electronics; RoHS: Yes; Category: Chip SMD Resistors; Stock 1: 60000; Pricing 1: 10000=0.0008, 50000=0.0008, 300000=0.0007, 1000000=0.0007, 3000000=0.0007 (USD); ComponentLink1URL: https://datasheet.ciiva.com/12575/pyu-rc0402-51-rohs-l-6-r-8721-12575610.pdf?src-supplier=Mouser; ComponentLink1Description: https://datasheet.ciiva.com/12575/pyu-rc0402-51-rohs-l-6-r-8721-12575610.pdf?src-supplier=Mouser
footprint RES_0402
pins: 1, 2

## RES_499R-0.1W-1%-0402
designator R?, comment 499R
499 Ohms ±1% 0.1W, 1/10W Chip Resistor 0402 (1005 Metric) Automotive AEC-Q200, Moisture Resistant Thick Film /; Manufacturer: KOA Speer Electronics, Inc.; Manufacturer Part Number: RK73H1ETTP4990F; Case/Package: 0402; Supplier-1: Digikey
footprint RES_0402
pins: 1, 2

## RES_499R-0.1W-1%-0603
designator R?, comment 499R  Supplier Part Number 1: RMCF0603FT499RCT-ND
Res Thick Film 0603 499 Ohm 1% 0.1W(1/10W) ±100ppm/C Pad SMD Automotive T/R; Manufacturer: Stackpole Electronics Inc; Manufacturer Part Number: RMCF0603FT499R; Manufacturer 1: Stackpole Electronics; Case/Package: 0603; Supplier-1: Digikey; Supplier 1: Digi-Key; Manufacturer Part Number 1: RMCF0603FT499R; RoHS: Yes; Category: Chip SMD Resistors; Stock 1: 590715; Pricing 1: 1=0.1, 10=0.014, 50=0.0086, 100=0.0071, 500=0.00474, 1000=0.00404 (USD); ComponentLink1URL: https://datasheet.ciiva.com/15193/getdatasheetpartid-408767-15193483.pdf?src-supplier=Verical; ComponentLink1Description: https://datasheet.ciiva.com/15193/getdatasheetpartid-408767-15193483.pdf?src-supplier=Verical
footprint RES_0603 (CASE: 0603)
pins: 1, 2

## RES_499R-0.05W-1%-0201
designator R?, comment 499R
499 Ohms ±1% 0.05W, 1/20W Chip Resistor 0201 (0603 Metric) Thick Film /; Manufacturer: Stackpole Electronics Inc; Manufacturer Part Number: RMCF0201FT499R; Case/Package: 0201; Supplier-1: Digikey
footprint RES_0201
pins: 1, 2

## RLY_SPDT_12V_33.3mA_Coil Current Omron
designator RLY?  (value not drawn)
RELAY GEN PURPOSE SPDT 10A 12V
footprint Relay_G5Q-14 Omron
pins: 1, 2, 3, 4, 5
text: Relay

## SEN VEML7700
designator SEN?  (value not drawn)
VEML7700 Series 3.6 V 6.8 x 2.35 x 3 mm High Accuracy Ambient Light Sensor; Manufacturer: Vishay; Manufacturer Part Number: VEML7700-TR; Min Supply Voltage (DC): 2.5V; Max Supply Voltage (DC): 3.6V; Wavelength: 545nm; Output Type: I2C; Supplier 1: Mouser; RoHS: Yes; Category: Optical Sensors; Stock 1: 89166; Pricing 1: 1=1.81, 10=0.966, 50=0.966, 100=0.827, 1000=0.672, 10000=0.609 (USD); Mount: Surface Mount; Case/Package: SMD/SMT; Min Operating Temperature: -25°C; Max Operating Temperature: 85°C; Packaging: Cut Tape; Series: -; RoHS Compliant: Yes; Reach SVHC Compliant: Unknown; Lead Free: Lead Free; ComponentLink1URL: https://media.digikey.com/pdf/Data%20Sheets/Vishay%20Semiconductors/VEML7700.pdf?src-supplier=Digi-Key; ComponentLink1Description: https://media.digikey.com/pdf/Data%20Sheets/Vishay%20Semiconductors/VEML7700.pdf?src-supplier=Digi-Key; ComponentLink2URL: http://www.farnell.com/datasheets/2245216.pdf?_ga=2.264302671.1993437627.1504087681-454586224.1503288287&src-supplier=Farnell; ComponentLink2Description: http://www.farnell.com/datasheets/2245216.pdf?_ga=2.264302671.1993437627.1504087681-454586224.1503288287&src-supplier=Farnell; ComponentLink3URL: http://www.farnell.com/datasheets/2006002.pdf?src-supplier=Farnell; ComponentLink3Description: http://www.farnell.com/datasheets/2006002.pdf?src-supplier=Farnell; ComponentLink4URL: http://www.farnell.com/datasheets/2245216.pdf?_ga=2.264302671.1993437627.1504087681-454586224.1503288287&src-supplier=Newark; ComponentLink4Description: http://www.farnell.com/datasheets/2245216.pdf?_ga=2.264302671.1993437627.1504087681-454586224.1503288287&src-supplier=Newark; ComponentLink5URL: http://www.farnell.com/datasheets/2006002.pdf?src-supplier=Element14; ComponentLink5Description: http://www.farnell.com/datasheets/2006002.pdf?src-supplier=Element14
footprint SEN VEML7700
pins: 1 SCL, 2 VDD, 3 GND, 4 SDA
text: VEML7700

## SW_SPST_NO_EVP-AA602W_SMT
designator SW?, comment EVP-AA602W
SWITCH TACTILE SPST-NO 0.02A 15V; Manufacturer: Panasonic; Supplier 1: Mouser; Manufacturer Part Number: EVP-AA602W; RoHS: Yes; Category: Tactile Switches; Stock 1: 3156; Pricing 1: 1=0.86, 10=0.818, 50=0.802, 100=0.682, 1000=0.498, 10000=0.461 (USD); ComponentLink1URL: https://datasheet.ciiva.com/30071/atk0000ce26-30071612.pdf?src-supplier=Onlinecomponents.com; ComponentLink1Description: https://datasheet.ciiva.com/30071/atk0000ce26-30071612.pdf?src-supplier=Onlinecomponents.com; ComponentLink2URL: https://datasheet.ciiva.com/16212/atk0000ce26-16212136.pdf?src-supplier=Future+Electronics; ComponentLink2Description: https://datasheet.ciiva.com/16212/atk0000ce26-16212136.pdf?src-supplier=Future+Electronics; ComponentLink3URL: https://datasheet.ciiva.com/2899/atk0000ce26-2899984.pdf?src-supplier=Digi-Key; ComponentLink3Description: https://datasheet.ciiva.com/2899/atk0000ce26-2899984.pdf?src-supplier=Digi-Key; ComponentLink4URL: https://datasheet.ciiva.com/2899/atk0000ce26-2899985.pdf?src-supplier=Digi-Key; ComponentLink4Description: https://datasheet.ciiva.com/2899/atk0000ce26-2899985.pdf?src-supplier=Digi-Key; ComponentLink5URL: https://datasheet.ciiva.com/2899/atk0000ce26-2899986.pdf?src-supplier=Digi-Key; ComponentLink5Description: https://datasheet.ciiva.com/2899/atk0000ce26-2899986.pdf?src-supplier=Digi-Key; Supplier 2: Digi-Key; Manufacturer 2: Panasonic; Manufacturer Part Number 2: EVP-AA602W; Stock 2: 74087; Pricing 2: 1=0.79, 10=0.759, 25=0.7296, 100=0.6334, 250=0.57796, 500=0.53708, 1000=0.48162, 2500=0.45243 (USD); ComponentLink6URL: https://datasheet.ciiva.com/25603/0900766b810ad3e5-25603922.pdf?src-supplier=Rs; ComponentLink6Description: https://datasheet.ciiva.com/25603/0900766b810ad3e5-25603922.pdf?src-supplier=Rs; ComponentLink7URL: https://datasheet.ciiva.com/8166/atk0000ce26-8166426.pdf?src-supplier=Avnet; ComponentLink7Description: https://datasheet.ciiva.com/8166/atk0000ce26-8166426.pdf?src-supplier=Avnet; Supplier Part Number 2: 10-EVP-AA602WCT-ND
footprint SW_Tactile_SPDT EVP-AA602W
pins: 1, 1' 2, 2 3, 2' 4
text: TACTILE SW

## SW_SPST_Rocker_10A
designator SW?, comment RA1113112R
SWITCH ROCKER SPST 10A 125V; Manufacturer: E-Switch; Supplier 1: Digikey; Manufacturer Part Number: RA1113112R; RoHS: No; Category: Rocker Switches; Stock 1: 16370; Pricing 1: 1=0.67, 10=0.594, 25=0.5636, 50=0.536, 100=0.511, 250=0.48844, 500=0.43834, 1000=0.41329 (USD); ComponentLink1URL: http://www.mouser.com/ds/2/140/RA1-346116.pdf?src-supplier=Mouser; ComponentLink1Description: http://www.mouser.com/ds/2/140/RA1-346116.pdf?src-supplier=Mouser; ComponentLink2URL: https://sten-eswitch-13110800-production.s3.amazonaws.com/system/asset/product_line/data_sheet/81/RA1.pdf?src-supplier=Digikey; ComponentLink2Description: https://sten-eswitch-13110800-production.s3.amazonaws.com/system/asset/product_line/data_sheet/81/RA1.pdf?src-supplier=Digikey; ComponentLink3URL: https://www.e-switch.com/system/asset/product_line/data_sheet/81/RA1.pdf?src-supplier=Digikey; ComponentLink3Description: https://www.e-switch.com/system/asset/product_line/data_sheet/81/RA1.pdf?src-supplier=Digikey; ComponentLink4URL: https://datasheet.octopart.com/RA1113112R-E-Switch-datasheet-41578078.pdf?src-supplier=Electro+Sonic; ComponentLink4Description: https://datasheet.octopart.com/RA1113112R-E-Switch-datasheet-41578078.pdf?src-supplier=Electro+Sonic; ComponentLink5URL: https://datasheet.octopart.com/RA1113112R-E-Switch-datasheet-62278816.pdf?src-supplier=Master+Electronics; ComponentLink5Description: https://datasheet.octopart.com/RA1113112R-E-Switch-datasheet-62278816.pdf?src-supplier=Master+Electronics; Supplier Part Number 1: EG5619-ND
pins: 1, 2 3

## SW_TACT_EDGE_EVQ-P46B3M
designator SW?, comment EVQ-P46B3M
Switch Tactile N.O. SPST Button J-Bend 0.02A 15VDC 3.5N SMD Automotive T/R; Manufacturer 1: Panasonic; Supplier 1: Digi-Key; Manufacturer Part Number 1: EVQ-P46B3M; RoHS: Yes; Category: Tactile Switches; Stock 1: 16653; Pricing 1: 1=0.87, 10=0.839, 25=0.784, 100=0.6807, 250=0.6194, 500=0.57422, 1000=0.53228 (USD); ComponentLink1URL: https://datasheet.ciiva.com/24076/atv0000ce6-64395-24076389.pdf?src-supplier=Mouser; ComponentLink1Description: https://datasheet.ciiva.com/24076/atv0000ce6-64395-24076389.pdf?src-supplier=Mouser; ComponentLink2URL: https://datasheet.ciiva.com/16439/atk0000ce18-16439710.pdf?src-supplier=Future+Electronics; ComponentLink2Description: https://datasheet.ciiva.com/16439/atk0000ce18-16439710.pdf?src-supplier=Future+Electronics; Supplier Part Number 1: P15504CT-ND
footprint SW_EVQP4 - Edge Mount (EVQ-PE105K)
pins: 1, 2 3

## SW_TACT_EVQ-PE105K
designator SW?  (value not drawn)
Switch Tactile N.O. SPST Rectangular Button J-Bend 0.05A 12VDC 1N SMD Embossed Tape; Manufacturer: Panasonic; Manufacturer Part Number: EVQ-PE105K; Supplier 1: Mouser; RoHS: Yes; Category: Tactile Switches; Stock 1: 4772; Pricing 1: 1=0.63, 10=0.604, 50=0.582, 100=0.504, 1000=0.381, 10000=0.322 (USD); ComponentLink1URL: https://datasheet.ciiva.com/7576/1520559-7576409.pdf?src-supplier=Newark; ComponentLink1Description: https://datasheet.ciiva.com/7576/1520559-7576409.pdf?src-supplier=Newark; ComponentLink2URL: https://datasheet.ciiva.com/8164/atk0000ce7-8164969.pdf?src-supplier=Avnet; ComponentLink2Description: https://datasheet.ciiva.com/8164/atk0000ce7-8164969.pdf?src-supplier=Avnet; ComponentLink3URL: https://datasheet.ciiva.com/46401/1520559-46401323.pdf?src-supplier=Element14; ComponentLink3Description: https://datasheet.ciiva.com/46401/1520559-46401323.pdf?src-supplier=Element14; ComponentLink4URL: https://datasheet.ciiva.com/16438/atk0000ce7-16438091.pdf?src-supplier=Future+Electronics; ComponentLink4Description: https://datasheet.ciiva.com/16438/atk0000ce7-16438091.pdf?src-supplier=Future+Electronics
footprint SW_EVQPN (EVQ-PE105K)
pins: 1, 2 3

## SW_TACT_SPST_RIGHTANGLE
designator SW?, comment TL3330AF260QG
Switch Tactile N.O. SPST Rectangular Button Gull Wing 0.05A 12VDC 2.55N SMD; Manufacturer: E-Switch; Supplier 1: Digi-Key; Manufacturer Part Number: TL3330AF260QG; RoHS: Yes; Category: Tactile Switches; Stock 1: 123639; Pricing 1: 1=0.51, 10=0.488, 25=0.47, 100=0.4068, 250=0.3706, 500=0.3435, 1000=0.30734 (USD); ComponentLink1URL: https://datasheet.ciiva.com/2900/p010951-2900788.pdf?src-supplier=Digi-Key; ComponentLink1Description: https://datasheet.ciiva.com/2900/p010951-2900788.pdf?src-supplier=Digi-Key; ComponentLink2URL: https://datasheet.ciiva.com/5284/tl3330-28043-5284129.pdf?src-supplier=Mouser; ComponentLink2Description: https://datasheet.ciiva.com/5284/tl3330-28043-5284129.pdf?src-supplier=Mouser; ComponentLink3URL: https://datasheet.ciiva.com/2900/tl3330-2900789.pdf?src-supplier=Digi-Key; ComponentLink3Description: https://datasheet.ciiva.com/2900/tl3330-2900789.pdf?src-supplier=Digi-Key; ComponentLink4URL: https://datasheet.ciiva.com/2900/tl3330-2900790.pdf?src-supplier=Digi-Key; ComponentLink4Description: https://datasheet.ciiva.com/2900/tl3330-2900790.pdf?src-supplier=Digi-Key
footprint SW_RightAngle
pins: 1, 2 3

## Test Point SMD Round 0.8mm
designator TP?  (value not drawn)  (net tie, no BOM)
Testpoint SMD Round
footprint Test Point Round 0.8mm
pins: 1

## Test Point SMD Round 1.27mm
designator TP?  (value not drawn)  (net tie, no BOM)
Testpoint SMD Round
footprint Test Point Round 1.27mm
pins: 1

## Test Point SMD Round 2mm
designator TP?  (value not drawn)  (net tie, no BOM)
Testpoint SMD Round
footprint Test Point Round 2mm
pins: 1

## Test Point SMD Square 1.27mm
designator TP?  (value not drawn)  (net tie, no BOM)
Testpoint SMD Square
footprint Test Point Square 1.27mm
pins: 1

## TRANS-2-NPN_50Vce-100mA
designator Q?, comment UMH3N  (value not drawn)
Pre-Biased Bipolar Transistor (BJT) 2 NPN - Pre-Biased (Dual) 50V 100mA 250MHz 150mW Surface Mount UMT6
footprint SOT-363 (SC-88) UMH3N
pins: 1 2, 2 B, 3, 4 2, 5 B, 6 3
text: C; E

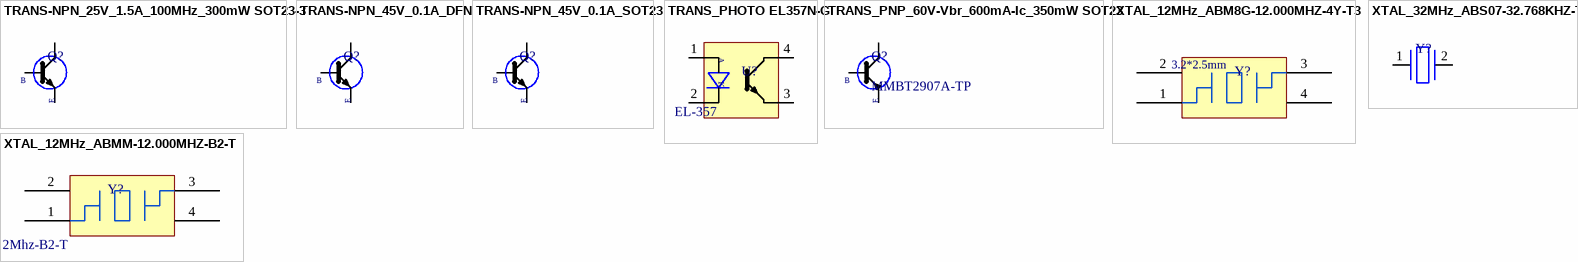
[diagram p15: symbols TRANS-NPN_25V_1.5A_100MHz_300mW SOT23-3 to XTAL_32MHz_ABS07-32.768KHZ-T]

## TRANS-NPN_25V_1.5A_100MHz_300mW SOT23-3
designator Q?, comment SS8050G  (value not drawn)
Trans Gp Bjt NPN 25V 1.5A 300MW 3-PIN SOT-23 T/r; Manufacturer: Comchip; Manufacturer Part Number: SS8050-G; Transition Frequency: 100MHz; Collector-emitter Voltage-Max: 400mV; Supplier 1: Digi-Key; RoHS: Yes; Category: Transistors; Stock 1: 240377; Pricing 1: 1=0.29, 10=0.236, 100=0.1254, 500=0.0825, 1000=0.0561 (USD); Mount: Surface Mount; Case/Package: TO-236-3; Packaging: Cut Tape; Max Collector Current: 1.5A; Max Power Dissipation: 300mW; Collector Emitter Breakdown Voltage: 25V; Max Breakdown Voltage: 25V; Series: -; RoHS Compliant: Yes; ComponentLink1URL: http://www.comchiptech.com/admin/files/product/SS8050-G RevA181526.pdf?src-supplier=Digi-Key; ComponentLink1Description: http://www.comchiptech.com/admin/files/product/SS8050-G RevA181526.pdf?src-supplier=Digi-Key
footprint SOT23-3 SS8050 (SOT23, 3-Leads, Body 2.90x2.40mm, Pitch 0.95mm, IPC Medium Density)
pins: 1 B, 2, 3
text: C; E

## TRANS-NPN_45V_0.1A_DFN
designator Q?, comment BC847BLP-7B  (value not drawn)
Trans Gp Bjt NPN 45V 0.1A 3-PIN Dfn T/r; Manufacturer 1: Diodes; Max Power Dissipation: 250mW; Collector Base Voltage (VCBO): 50V; Emitter Base Voltage (VEBO): 6V; Collector Emitter Saturation Voltage: 600mV; Max Collector Current: 100mA; Transition Frequency: 100MHz; Supplier 1: Digi-Key; Manufacturer Part Number 1: BC847BLP-7B; RoHS: Yes; Category: BJTs; Stock 1: 801915; Pricing 1: 1=0.37, 10=0.299, 100=0.2036, 500=0.15272, 1000=0.11453, 2000=0.10499, 5000=0.09863 (USD); Mount: Surface Mount; Number of Pins: 3; Contact Plating: Gold; Min Operating Temperature: -55°C; Max Operating Temperature: 150°C; Packaging: Tape and Reel; Package Quantity: 10000; Polarity: NPN; Continuous Collector Current: 100mA; Collector Emitter Breakdown Voltage: 45V; Max Breakdown Voltage: 45V; Gain Bandwidth Product: 100MHz; Collector-emitter Voltage-Max: 600mV; Series: -; Reach SVHC Compliant: Yes; RoHS Compliant: Yes; ComponentLink1URL: http://www.mouser.com/ds/2/115/ds30525-85282.pdf?src-supplier=Mouser; ComponentLink1Description: http://www.mouser.com/ds/2/115/ds30525-85282.pdf?src-supplier=Mouser; ComponentLink2URL: http://components.arrow.com/part/dataview/51721201S9314959N2867?src-supplier=Arrow+Electronics; ComponentLink2Description: http://components.arrow.com/part/dataview/51721201S9314959N2867?src-supplier=Arrow+Electronics; ComponentLink3URL: https://www.diodes.com/assets/Datasheets/ds30525.pdf?src-supplier=Digi-Key; ComponentLink3Description: https://www.diodes.com/assets/Datasheets/ds30525.pdf?src-supplier=Digi-Key; ComponentLink4URL: http://www.diodes.com/datasheets/ds30525.pdf?src-supplier=Avnet; ComponentLink4Description: http://www.diodes.com/datasheets/ds30525.pdf?src-supplier=Avnet; Supplier Part Number 1: BC847BLP-7BDICT-ND
footprint BC847BLP - 3DFN
pins: 1 B, 2, 3
text: C; E

## TRANS-NPN_45V_0.1A_SOT23
designator Q?  (value not drawn)
Part No- BC847,215 / TRANS NPN 45V 0.1A SOT23
pins: 1 B, 2, 3
text: C; E

## TRANS_PHOTO EL357N-G
designator U?  (value not drawn)
OPTOISOLATOR 3.75KV TRANS 4-SOP
footprint SOP4_2.54_SMT EL357N-G (SOP, 4-Leads, Body 4.20x4.40mm, Pitch 2.54mm, IPC Medium Density)
pins: 1 5, 2 4, 3, 4
text: A; K; EL-357

## TRANS_PNP_60V-Vbr_600mA-Ic_350mW SOT23
designator Q?, comment MMBT2907A-TP
TRANS PNP 60V 0.6A SOT23 / Bipolar (BJT) Transistor PNP 60 V 600 mA 200MHz 350 mW Surface Mount SOT-23
footprint SOT23_1.27 MMBT2907A-TP
pins: 1 B, 2, 3
text: C; E